# Altium footprint library Air_Logger_PCB_ver2.PcbLib: 35 footprints (part 2 of 3)
Each footprint in its own frame and in the unit in brackets; x right, y up, seen from the top. Pads: shape width x height; smd on the part's side, far side on the other; paste and mask are expansions set on the pad; w line width, h text height; cw(c..) or ccw(c..) is an arc to the next point about the centre after c.
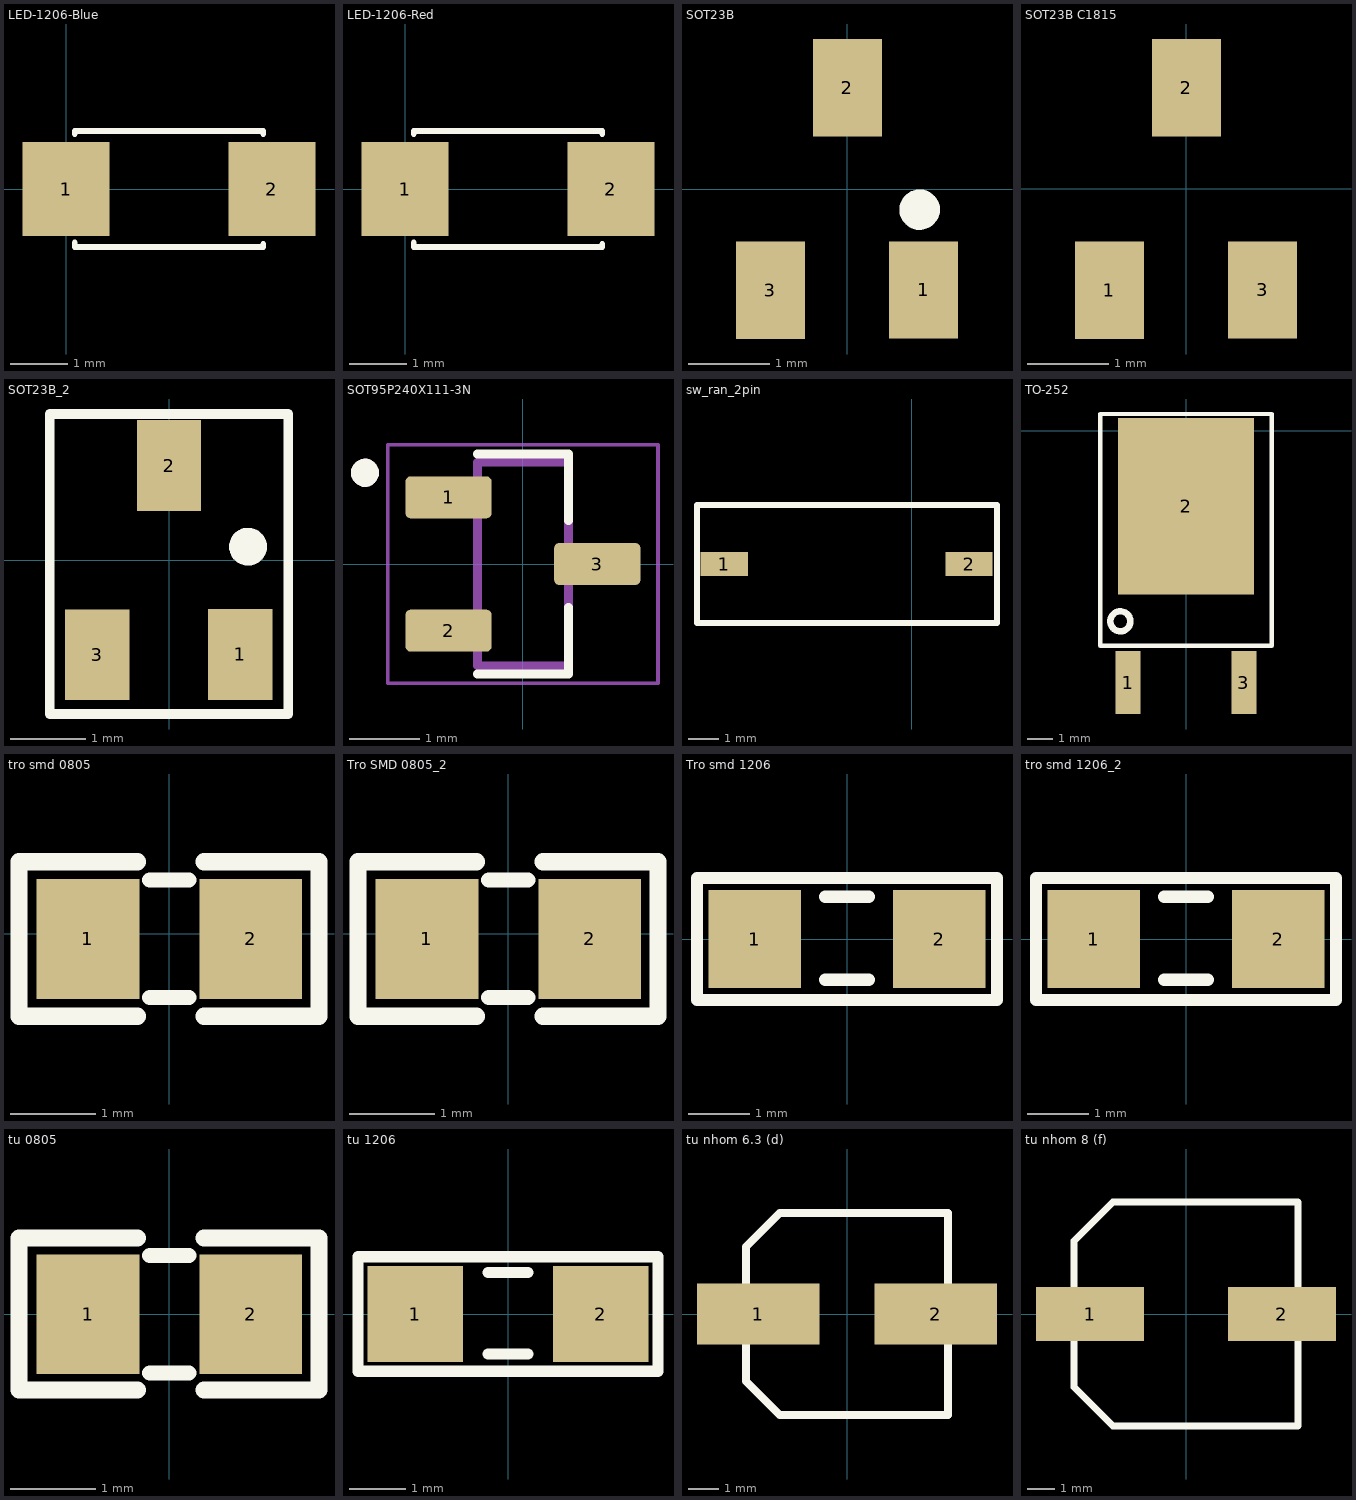
[diagram p1: the footprints below, top view; thin cyan lines are the x and y axes]

## LED-1206-Blue [mil]
pads (2):
  rect 60x65 smd: 1(0,0) 2(142,0)
Top Overlay:
  lines w4: 6,-37 6,-40 136,-40 136,-38 ; 6,38 6,40 136,40 136,38
3D body "User Library-led_1206-blue.step": height 43.31, standoff 0, extent 6.62,-31.49 133.39,31.5

## LED-1206-Red [mil]
pads (2):
  rect 60x65 smd: 1(0,0) 2(142,0)
Top Overlay:
  lines w4: 6,-37 6,-40 136,-40 136,-38 ; 6,38 6,40 136,40 136,38
3D body "User Library-led_1206-red.step": height 43.31, standoff 0, extent 6.62,-31.49 133.39,31.5

## SOT23B [mm]
pads (3):
  rect 0.85x1.2 smd: 1(0.94,-1.245) 2(0,1.25) 3(-0.95,-1.25)
Top Overlay:
  circle w0.25: c0.891,-0.254 r0.125
3D body "SW3DPS-SOT-23-DEFAULT.STEP": height 1.06, standoff -0.04, extent -1.5,-1.301 1.5,1.199

## SOT23B C1815 [mm]
pads (3):
  rect 0.85x1.2 smd: 1(-0.945,-1.25) 2(0.005,1.25) 3(0.945,-1.245)
3D body "SW3DPS-SOT-23-DEFAULT.STEP": height 1.06, standoff -0.04, extent -1.495,-1.301 1.505,1.199

## SOT23B_2 [mm]
pads (3):
  rect 0.85x1.2 smd: 1(0.94,-1.245) 2(0,1.25) 3(-0.95,-1.25)
Top Overlay:
  circle w0.25: c1.043,0.178 r0.125
  lines w0.127: -1.575,-2.032 -1.575,1.93 1.575,1.93 1.575,-2.032 -1.575,-2.032
3D body "SW3DPS-SOT-23-DEFAULT.STEP": height 1.06, standoff -0.04, extent -1.5,-1.301 1.5,1.199

## SOT95P240X111-3N [mm]
pads (3):
  rrect25% 1.23x0.6 smd: 1(-1.06,0.95) 2(-1.06,-0.95) 3(1.06,0)
Top Overlay:
  circle w0.2: c-2.25,1.3 r0.1
  lines w0.127: -0.65,-1.57 0.65,-1.57 0.65,-0.62 ; -0.65,1.57 0.65,1.57 0.65,0.62
Mechanical 13:
  circle w0.2: c-2.25,1.3 r0.1
  lines w0.127: -0.65,-1.45 -0.65,1.45 0.65,1.45 0.65,-1.45 -0.65,-1.45
Mechanical 15:
  lines w0.05: -1.925,-1.7 1.925,-1.7 1.925,1.7 -1.925,1.7 -1.925,-1.7
3D body "step_temp.STEP": height 0.65, standoff -0.55, extent -1.46,-1.2 1.46,1.2

## sw_ran_2pin [mm]
pads (2):
  rect 1.55x0.8 smd: 1(-6.147,-6.756) 2(1.88,-6.756)
Top Overlay:
  lines w0.2: -7.036,-8.687 2.794,-8.687 2.794,-4.826 -4.775,-4.826 -7.036,-4.826 -7.036,-8.687
3D body "User Library-Tact switch 1181_3.STEP": height 2.53, standoff 0.03, extent -6.184,-8.556 1.816,-4.956

## TO-252 [mm]
pads (3):
  rect 1x2.5 smd: 1(-2.3,-10) 3(2.3,-10)
  rect 5.4x7 smd: 2(0,-3)
Top Overlay:
  circle w0.254: c-2.607,-7.569 r0.397
  lines w0.178: -3.404,-8.534 -3.4,0.66 3.4,0.66 3.404,-8.534 -3.404,-8.534
3D body "SW3dPS-80072023 TO252.STEP": height 2.3, standoff -0.01, extent -3.303,-10.057 3.277,-0.357

## tro smd 0805 [mm]
pads (2):
  rect 1.2x1.4 smd: 1(-0.946,-0.061) 2(0.954,-0.061)
Top Overlay:
  lines w0.178: -0.224,-0.747 0.233,-0.747 ; -0.224,0.625 0.233,0.625
  lines w0.2: -0.367,-0.965 -1.75,-0.965 -1.75,0.838 -0.367,0.838 ; 0.408,-0.965 1.75,-0.965 1.75,0.838 0.408,0.838
3D body "Tro 0805.STEP": height 0.53, standoff 0, extent -1.562,-0.763 1.438,0.637

## Tro SMD 0805_2 [mm]
pads (2):
  rect 1.2x1.4 smd: 1(-0.946,-0.061) 2(0.954,-0.061)
Top Overlay:
  lines w0.178: -0.224,-0.747 0.233,-0.747 ; -0.224,0.625 0.233,0.625
  lines w0.2: -0.367,-0.965 -1.75,-0.965 -1.75,0.838 -0.367,0.838 ; 0.408,-0.965 1.75,-0.965 1.75,0.838 0.408,0.838
3D body "Tro 0805.STEP": height 0.53, standoff 0, extent -1.562,-0.763 1.438,0.637

## Tro smd 1206 [mm]
pads (2):
  rect 1.5x1.6 smd: 1(-1.5,0) 2(1.5,0)
Top Overlay:
  lines w0.2: -0.356,-0.66 0.356,-0.66 ; -0.356,0.686 0.356,0.686 ; -2.438,-0.991 -2.438,0.991 2.438,0.991 2.438,-0.203 2.438,-0.991 -2.438,-0.991
3D body "Resistor SMD 1206.step": height 0.6, standoff 0, extent -1.6,-0.8 1.6,0.8

## tro smd 1206_2 [mm]
pads (2):
  rect 1.5x1.6 smd: 1(-1.5,0) 2(1.5,0)
Top Overlay:
  lines w0.2: -0.356,-0.66 0.356,-0.66 ; -0.356,0.686 0.356,0.686 ; -2.438,-0.991 -2.438,0.991 2.438,0.991 2.438,-0.203 2.438,-0.991 -2.438,-0.991
3D body "Resistor SMD 1206.step": height 0.6, standoff 0, extent -1.6,-0.8 1.6,0.8

## tu 0805 [mm]
pads (2):
  rect 1.2x1.4 smd: 1(-0.946,-0.003) 2(0.954,-0.003)
Top Overlay:
  lines w0.178: -0.224,-0.689 0.233,-0.689 ; -0.224,0.682 0.233,0.682
  lines w0.2: -0.367,-0.889 -1.753,-0.889 -1.753,0.889 -0.367,0.889 ; 0.408,-0.889 1.753,-0.889 1.753,0.889 0.408,0.889
3D body "SW3dPS-smt_resistor_packages.STEP": height 0.61, standoff -0.01, extent -1.006,-0.638 1.014,0.632

## tu 1206 [mm]
pads (2):
  rect 1.7x1.7 smd: 1(-1.65,0) 2(1.65,0)
Top Overlay:
  lines w0.2: -0.356,-0.711 0.356,-0.711 ; -0.356,0.737 0.356,0.737 ; -2.667,-1.016 2.667,-1.016 2.667,-0.483 2.667,1.016 -2.667,1.016 -2.667,-1.016
3D body "capacitor 1206.step": height 0.94, standoff 0, extent -1.575,-0.8 1.625,0.8

## tu nhom 6.3 (d) [mm]
pads (2):
  rect 4x2 smd: 1(-2.9,0) 2(2.9,0)
Top Overlay:
  lines w0.254: -3.3,-2.2 -3.3,2.2 -2.2,3.3 3.3,3.3 3.3,-3.3 -2.2,-3.3 -3.3,-2.2
3D body "aluminum capacitor 6_3x7_7.step": height 8, standoff 0, extent -3.8,-3.3 3.8,3.3

## tu nhom 8 (f) [mm]
pads (2):
  rect 4x2 smd: 1(-3.55,0) 2(3.55,0)
Top Overlay:
  lines w0.254: -4.15,-2.708 -4.15,2.708 -2.708,4.15 4.15,4.15 4.15,-4.15 -2.708,-4.15 -4.15,-2.708
3D body "aluminum capacitor 8mm.STEP": height 10.5, standoff 0, extent -4.852,-4.25 4.848,4.25